# Altium footprint library FlexBMS_lib.pcblib: 25 footprints (part 2 of 2)
Each footprint in its own frame and in the unit in brackets; x right, y up, seen from the top. Pads: shape width x height; smd on the part's side, far side on the other; paste and mask are expansions set on the pad; w line width, h text height; cw(c..) or ccw(c..) is an arc to the next point about the centre after c.
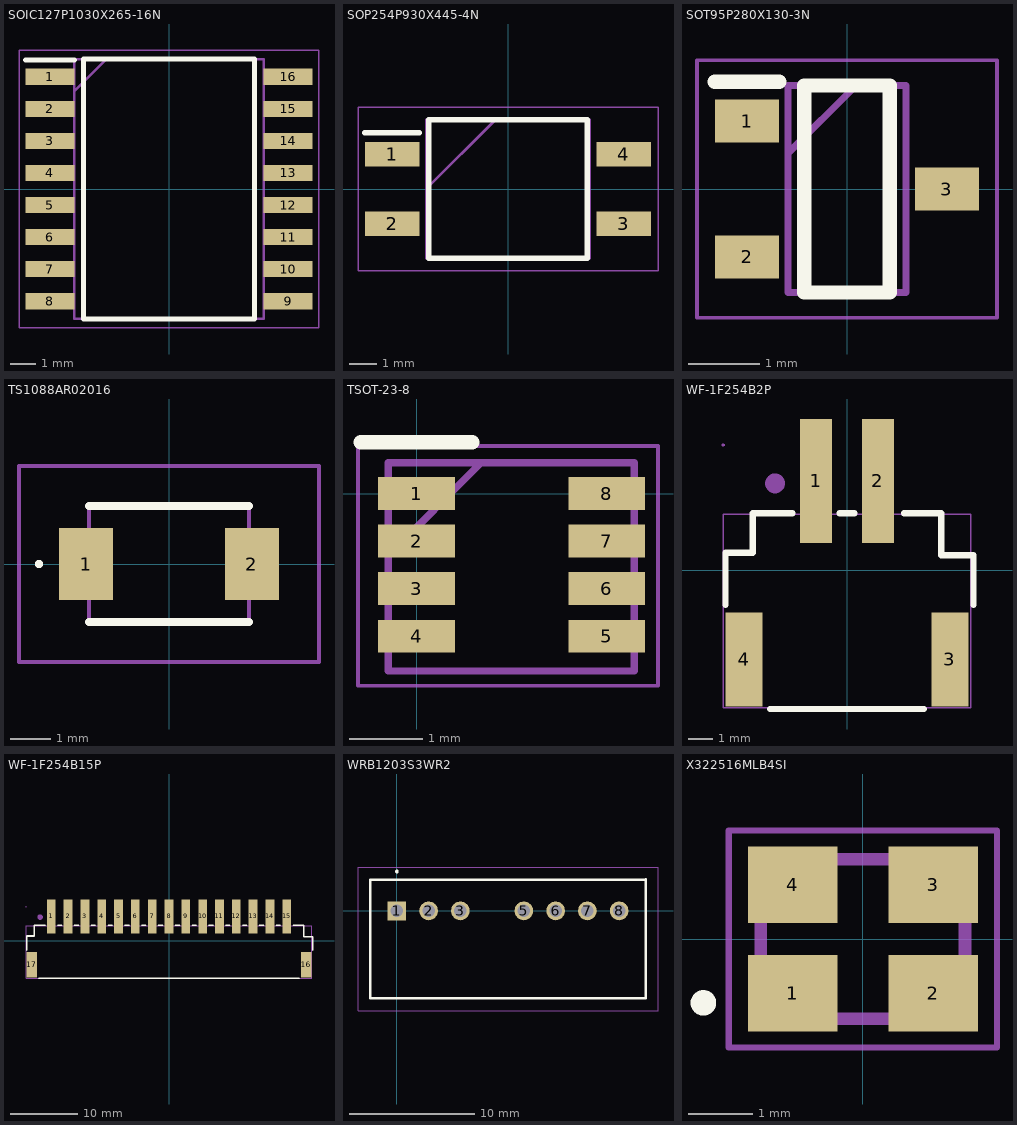
[diagram p1: the footprints below, top view; thin cyan lines are the x and y axes]

## SOIC127P1030X265-16N [mm]
pads (16):
  rect 1.95x0.65 smd: 1(-4.725,4.445) 2(-4.725,3.175) 3(-4.725,1.905) 4(-4.725,0.635) 5(-4.725,-0.635) 6(-4.725,-1.905) 7(-4.725,-3.175) 8(-4.725,-4.445) 9(4.725,-4.445) 10(4.725,-3.175) 11(4.725,-1.905) 12(4.725,-0.635) 13(4.725,0.635) 14(4.725,1.905) 15(4.725,3.175) 16(4.725,4.445)
Top Overlay:
  lines w0.2: -5.7,5.12 -3.75,5.12 ; -3.4,-5.15 -3.4,5.15 3.4,5.15 3.4,-5.15 -3.4,-5.15
Mechanical 13:
  lines w0.1: -3.75,3.88 -2.48,5.15 ; -3.75,-5.15 -3.75,5.15 3.75,5.15 3.75,-5.15 -3.75,-5.15
Mechanical 15:
  lines w0.05: -5.95,-5.5 -5.95,5.5 5.95,5.5 5.95,-5.5 -5.95,-5.5
3D body "AMC3330QDWERQ1.stp": height 2.59, standoff 0, extent -5.167,-5.15 5.167,5.15

## SOP254P930X445-4N [mm]
pads (4):
  rect 2x0.9 smd: 1(-4.25,1.27) 2(-4.25,-1.27) 3(4.25,-1.27) 4(4.25,1.27)
Top Overlay:
  lines w0.2: -5.25,2.07 -3.25,2.07 ; -2.9,-2.54 2.9,-2.54 2.9,2.54 -2.9,2.54 -2.9,-2.54
Mechanical 13:
  lines w0.1: -3,0 -0.46,2.54 ; -3,-2.54 3,-2.54 3,2.54 -3,2.54 -3,-2.54
Mechanical 15:
  lines w0.05: -5.5,-2.99 5.5,-2.99 5.5,2.99 -5.5,2.99 -5.5,-2.99
3D body "DSIC02LSGET.stp": height 4.45, standoff 0, extent -4.65,-2.54 4.65,2.54

## SOT95P280X130-3N [mm]
pads (3):
  rect 0.9x0.6 smd: 1(-1.4,0.95) 2(-1.4,-0.95) 3(1.4,0)
Top Overlay:
  lines w0.2: -1.85,1.5 -0.95,1.5 ; -0.6,-1.45 -0.6,1.45 0.6,1.45 0.6,-1.45 -0.6,-1.45
Mechanical 13:
  lines w0.1: -0.825,0.5 0.125,1.45 ; -0.825,-1.45 -0.825,1.45 0.825,1.45 0.825,-1.45 -0.825,-1.45
Mechanical 15:
  lines w0.05: -2.1,-1.8 -2.1,1.8 2.1,1.8 2.1,-1.8 -2.1,-1.8
3D body "XC6206P332MR-G.stp": height 1.3, standoff 0, extent -1.4,-1.45 1.4,1.45

## TS1088AR02016 [mm]
pads (2):
  rect 1.35x1.8 smd: 1(-2.075,0) 2(2.075,0)
Top Overlay:
  lines w0.1: -3.3,0 cw(c-3.25,0) -3.2,0 cw(c-3.25,0) -3.3,0
  lines w0.2: -2,-1.45 2,-1.45 ; -2,1.45 2,1.45
Mechanical 13:
  lines w0.1: -2,-1.45 2,-1.45 2,1.45 -2,1.45 -2,-1.45
Mechanical 15:
  lines w0.1: -3.75,-2.45 3.75,-2.45 3.75,2.45 -3.75,2.45 -3.75,-2.45
3D body "TS-1088-AR02016.stp": height 2.1, standoff 0, extent -2.615,-1.45 2.615,1.45

## TSOT-23-8 [mm] "SOT-23-THIN"
height 1.1
pads (8):
  rect 1.05x0.45 smd: 1(0,0) 2(0,-0.65) 3(0,-1.3) 4(0,-1.95) 5(2.6,-1.95) 6(2.6,-1.3) 7(2.6,-0.65) 8(2.6,0)
Top Overlay:
  lines w0.2: -0.763,0.7 0.762,0.7
Mechanical 13:
  lines w0.1: -0.388,-0.85 0.882,0.42 ; -0.388,-2.425 -0.388,0.42 2.975,0.42 2.975,-2.425 -0.388,-2.425
Mechanical 15:
  lines w0.05: -0.8,-2.625 -0.8,0.65 3.3,0.65 3.3,-2.625 -0.8,-2.625
3D body "TSOT23-8_MPS.step": height 0.99, standoff 0, extent -0.199,-2.479 2.799,0.519

## WF-1F254B2P [mm]
pads (4):
  rect 1.3x5 smd: 1(-1.25,3.6) 2(1.25,3.6)
  rect 1.5x3.8 smd: 3(4.15,-3.6) 4(-4.15,-3.6)
Top Overlay:
  lines w0.254: -4.9,-1.4 -4.9,0.7 -3.8,0.7 -3.8,2.3 -2.2,2.3 ; -3.1,-5.6 3.1,-5.6 ; -0.3,2.3 0.3,2.3 ; 2.869,2.3 2.3,2.3 3.8,2.3 3.8,0.6 5.1,0.6 5.1,-1.4
Mechanical 6:
  circle w0.4: c-2.9,3.5 r0.2
Mechanical 15:
  region: 0.94,5.05 1.56,5.05 1.56,2.15 0.94,2.15
  region: -1.56,5.05 -0.94,5.05 -0.94,2.15 -1.56,2.15
  region: -4.3,-2 -4,-2 -4,-5.2 -4.3,-5.2
  region: 4,-2 4.3,-2 4.3,-5.2 4,-5.2
  region: -4.94,5.05 -4.94,5.025 -4.975,4.99 -5.025,4.99 -5.06,5.025 -5.06,5.05 -5.06,5.075 -5.025,5.11 -4.975,5.11 -4.94,5.075
  lines w0.051: -5,-5.55 5,-5.55 5,2.25 -5,2.25 -5,-5.55
3D body: height 6.05, standoff 0, extent -4.958,-5.55 5.05,2.3

## WF-1F254B15P [mm]
pads (17):
  rect 1.3x5 smd: 1(-17.5,3.6) 2(-15,3.6) 3(-12.5,3.6) 4(-10,3.6) 5(-7.5,3.6) 6(-5,3.6) 7(-2.5,3.6) 8(0,3.6) 9(2.5,3.6) 10(5,3.6) 11(7.5,3.6) 12(10,3.6) 13(12.5,3.6) 14(15,3.6) 15(17.5,3.6)
  rect 1.5x3.8 smd: 16(20.4,-3.6) 17(-20.4,-3.6)
Top Overlay:
  lines w0.254: -21.15,-1.4 -21.15,0.7 -20.05,0.7 -20.05,2.3 -18.45,2.3 ; -19.35,-5.6 1.942,-5.6 19.35,-5.6 ; -16.55,2.3 -15.95,2.3 ; -14.05,2.3 -13.45,2.3 ; -11.55,2.3 -10.95,2.3 ; -9.05,2.3 -8.45,2.3 ; -6.55,2.3 -5.95,2.3 ; -4.05,2.3 -3.45,2.3 ; -1.55,2.3 -0.95,2.3 ; 0.95,2.3 1.55,2.3 ; 3.45,2.3 4.05,2.3 ; 5.95,2.3 6.55,2.3 ; 8.45,2.3 9.05,2.3 ; 10.95,2.3 11.55,2.3 ; 13.45,2.3 14.05,2.3 ; 15.95,2.3 16.55,2.3 ; 18.5,2.3 20.05,2.3 20.05,0.6 21.35,0.6 21.35,-1.4
Mechanical 6:
  circle w0.4: c-19.15,3.5 r0.2
Mechanical 15:
  region: -21.19,5.05 -21.19,5.025 -21.225,4.99 -21.275,4.99 -21.31,5.025 -21.31,5.05 -21.31,5.075 -21.275,5.11 -21.225,5.11 -21.19,5.075
  region: 20.25,-2 20.55,-2 20.55,-5.2 20.25,-5.2
  region: -20.55,-2 -20.25,-2 -20.25,-5.2 -20.55,-5.2
  region: -0.31,5.05 0.31,5.05 0.31,2.15 -0.31,2.15
  region: -2.81,5.05 -2.19,5.05 -2.19,2.15 -2.81,2.15
  region: -5.31,5.05 -4.69,5.05 -4.69,2.15 -5.31,2.15
  region: -7.81,5.05 -7.19,5.05 -7.19,2.15 -7.81,2.15
  region: -10.31,5.05 -9.69,5.05 -9.69,2.15 -10.31,2.15
  region: -12.81,5.05 -12.19,5.05 -12.19,2.15 -12.81,2.15
  region: -15.31,5.05 -14.69,5.05 -14.69,2.15 -15.31,2.15
  region: -17.81,5.05 -17.19,5.05 -17.19,2.15 -17.81,2.15
  region: 2.19,5.05 2.81,5.05 2.81,2.15 2.19,2.15
  region: 4.69,5.05 5.31,5.05 5.31,2.15 4.69,2.15
  region: 7.19,5.05 7.81,5.05 7.81,2.15 7.19,2.15
  region: 9.69,5.05 10.31,5.05 10.31,2.15 9.69,2.15
  region: 12.19,5.05 12.81,5.05 12.81,2.15 12.19,2.15
  region: 17.19,5.05 17.81,5.05 17.81,2.15 17.19,2.15
  region: 14.69,5.05 15.31,5.05 15.31,2.15 14.69,2.15
  lines w0.051: -21.25,-5.55 -21.25,2.25 21.25,2.25 21.25,-5.55 -21.25,-5.55
3D body: height 6.05, standoff 0, extent -21.208,-5.55 21.25,2.3

## WRB1203S3WR2 [mm]
pads (7):
  rect 1.5x1.5 hole 1: 1(0,0)
  round 1.5 hole 1: 2(2.54,0) 3(5.08,0) 5(10.16,0) 6(12.7,0) 7(15.24,0) 8(17.78,0)
Top Overlay:
  lines w0.2: 19.89,2.5 -2.11,2.5 -2.11,-7 19.89,-7 19.89,2.55 ; 0,3.1 cw(c0,3.15) 0,3.2 ; 0,3.1 ccw(c0,3.15) 0,3.2 ; 0,3.1 cw(c0,3.15) 0,3.2
Mechanical 13:
  lines w0.1: -2.11,-7 19.89,-7 19.89,2.5 -2.11,2.5 -2.11,-7
Mechanical 15:
  lines w0.1: -3.11,-8 20.89,-8 20.89,3.5 -3.11,3.5 -3.11,-8
3D body "WRB1203S-3WR2.stp": height 12.35, standoff -5, extent -2.11,-7 19.89,2.5

## X322516MLB4SI [mm]
pads (4):
  rect 1.4x1.2 smd: 1(-1.1,-0.85) 2(1.1,-0.85) 3(1.1,0.85) 4(-1.1,0.85)
Top Overlay:
  lines w0.2: -2.6,-1 ccw(c-2.5,-1) -2.4,-1 ccw(c-2.5,-1) -2.6,-1
Mechanical 13:
  lines w0.2: -1.6,-1.25 1.6,-1.25 1.6,1.25 -1.6,1.25 -1.6,-1.25
Mechanical 15:
  lines w0.1: -2.1,-1.7 2.1,-1.7 2.1,1.7 -2.1,1.7 -2.1,-1.7
3D body "X322516MLB4SI.stp": height 0.7, standoff 0, extent -1.6,-1.25 1.6,1.25